# Altium schematic symbol library ESD protection.SchLib: 2 symbols
Pins are listed as number, name and electrical type; pins without a type are passive.

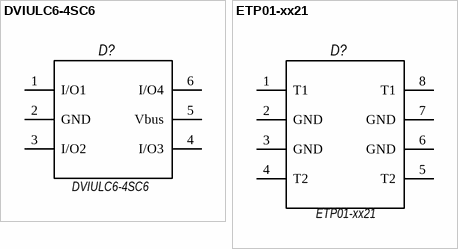
[diagram p0: symbols DVIULC6-4SC6 to ETP01-xx21]

## DVIULC6-4SC6
designator D?  Type: DVIULC6-4SC6  (hidden comment: *)
footprint SOT95P280X145-6N (SOT23-6L)
pins: 1 I/O1, 2 GND (power), 3 I/O2, 4 I/O3, 5 Vbus (power), 6 I/O4

## ETP01-xx21
designator D?
Type: ETP01-xx21
footprint SO-8
pins: 1 T1, 2 GND (power), 3 GND, 4 T2, 5 T2, 6 GND, 7 GND (power), 8 T1